# Altium footprint library CUI_PJ-102B.PcbLib: 1 footprints
Each footprint in its own frame and in the unit in brackets; x right, y up, seen from the top. Pads: shape width x height; smd on the part's side, far side on the other; paste and mask are expansions set on the pad; w line width, h text height; cw(c..) or ccw(c..) is an arc to the next point about the centre after c.
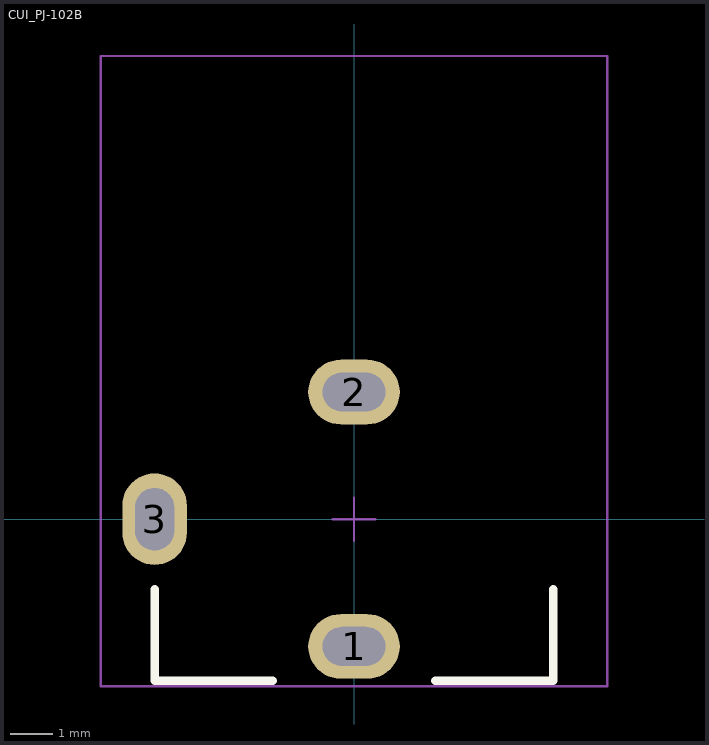
[diagram p0: the footprint, top view; thin cyan lines are the x and y axes]

## CUI_PJ-102B [mil]
pads (3):
  oval 85x60 hole 36 slot 58 at 0 deg: 1(0,-118) 2(0,118)
  oval 60x85 hole 36 slot 58 at 90 deg: 3(-185,0)
Top Overlay:
  lines w7.87: -185,-65 -185,-150 -75.56,-150 ; 75.56,-150 185,-150 185,-65
Mechanical 15:
  lines w1.97: -20,0 20,0 ; 0,-20 0,20 ; -235,-155 235,-155 235,430 -235,430 -235,-155
3D body "CUI_DEVICES_PJ-102B.step": height 452.17, standoff -118.56, extent -195.04,-145 175.04,421.93